# EAGLE library part TDA1308 (library Philips-semiconductors2)
Class AB stereo headphone driver
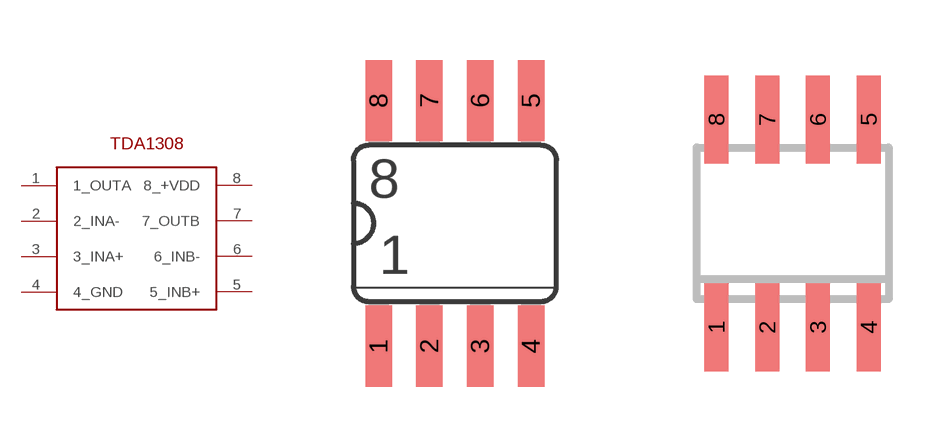
[diagram p12: symbol with the pads of SOT505-1; footprints SOT505-1, SOT96-1]

Designator prefix IC

## TDA1308  [SOT505-1]
1  1_OUTA
2  2_INA-
3  3_INA+
4  4_GND
5  5_INB+
6  6_INB-
7  7_OUTB
8  8_+VDD

## TDA1308SOT96-1  [SOT96-1]
Pads as for SOT505-1

## TDA1308SOT97-1  [SOT97-1]
Pads as for SOT505-1

## Footprint SOT505-1 (pad centres in mm)
smd 0.66 x 2.032: 1 -1.905,-3.073; 2 -0.635,-3.073; 3 0.635,-3.073; 4 1.905,-3.073; 5 1.905,3.073; 6 0.635,3.073; 7 -0.635,3.073; 8 -1.905,3.073

## Footprint SOT96-1 (pad centres in mm)
Small Outline Narrow Plastic Gull Wing 150-mil body, package type SN
smd 0.6 x 2.2: 1 -1.905,-2.6; 2 -0.635,-2.6; 3 0.635,-2.6; 4 1.905,-2.6; 5 1.905,2.6; 6 0.635,2.6; 7 -0.635,2.6; 8 -1.905,2.6

## Footprint SOT97-1 (pad centres in mm)
Dual In Line Package
drill 0.813 long: 1 -3.81,-3.81; 2 -1.27,-3.81; 3 1.27,-3.81; 4 3.81,-3.81; 5 3.81,3.81; 6 1.27,3.81; 7 -1.27,3.81; 8 -3.81,3.81